# Altium footprint library RLC Footprints.PcbLib: 68 footprints (part 4 of 5)
Each footprint in its own frame and in the unit in brackets; x right, y up, seen from the top. Pads: shape width x height; smd on the part's side, far side on the other; paste and mask are expansions set on the pad; w line width, h text height; cw(c..) or ccw(c..) is an arc to the next point about the centre after c.
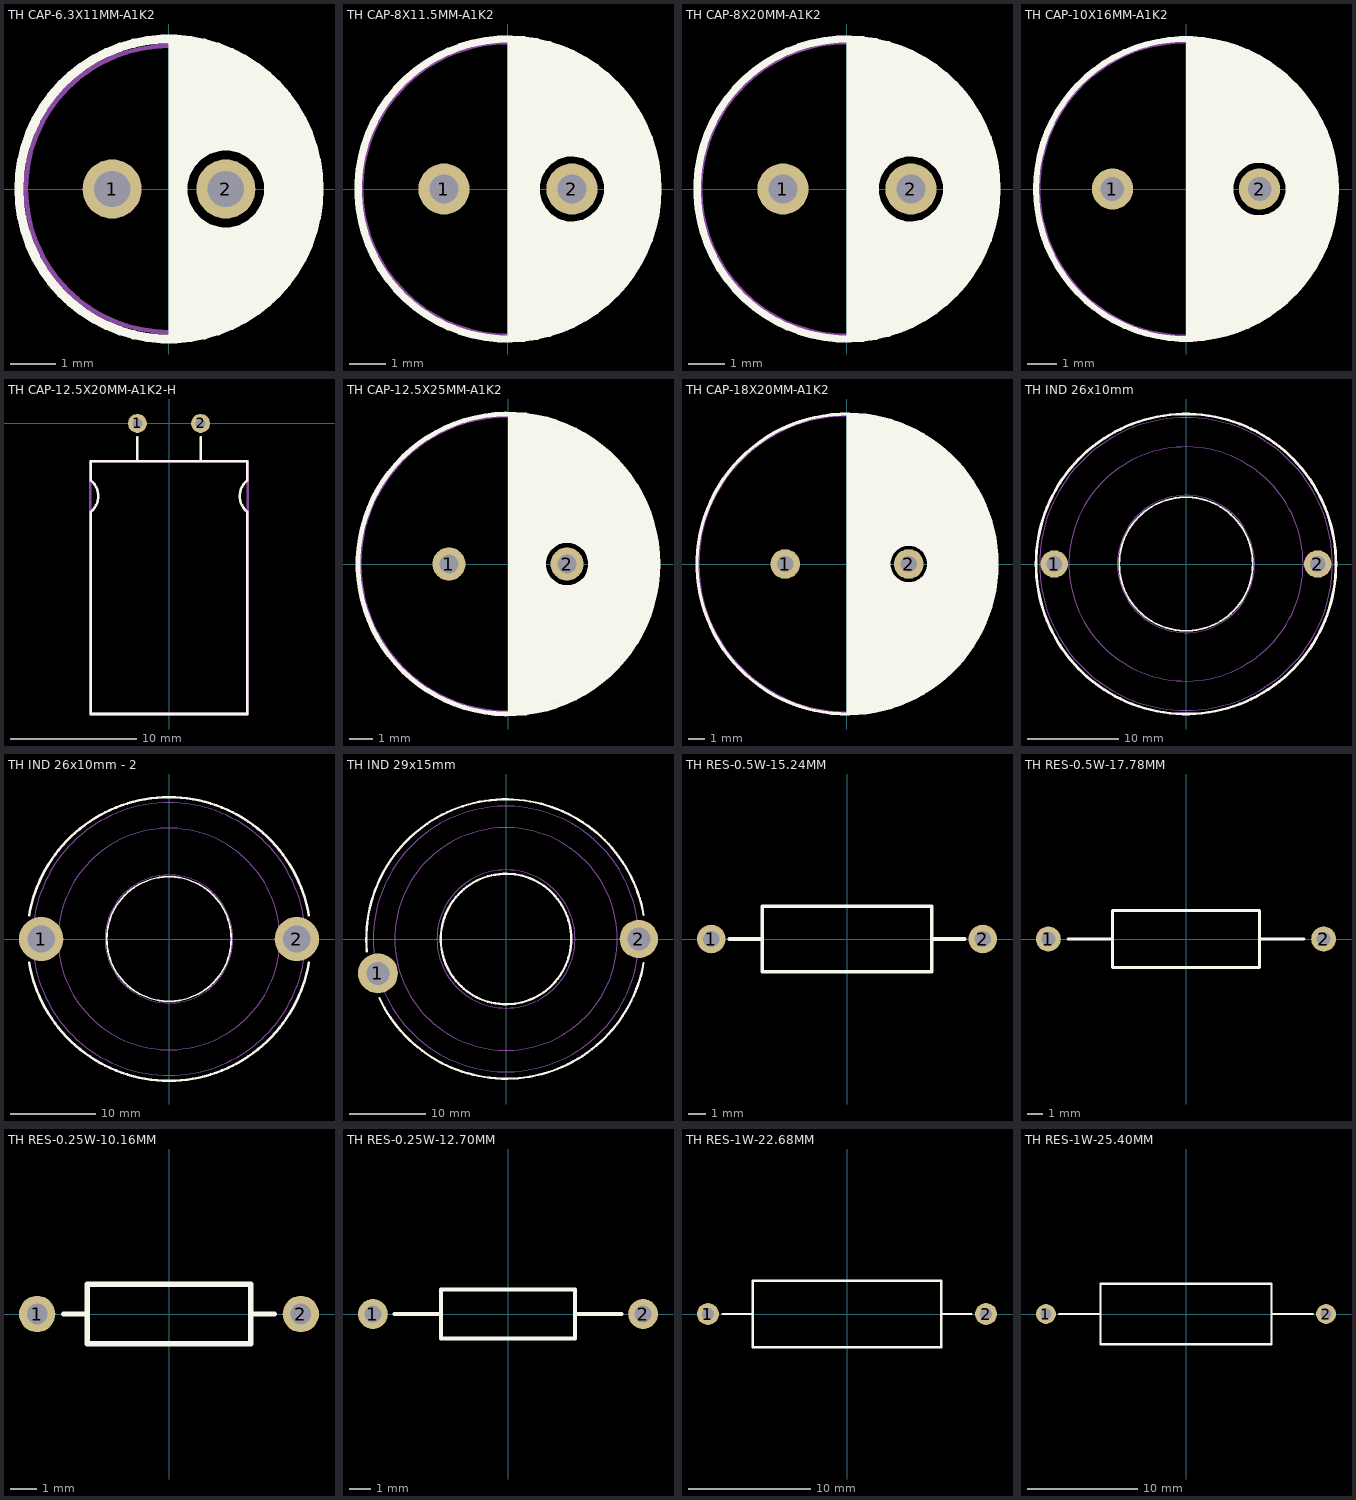
[diagram p3: the footprints below, top view; thin cyan lines are the x and y axes]

## TH CAP-6.3X11MM-A1K2 [mm] "Aluminum Electrolytic Capacitor, Diameter 6.3mm, Height 11mm, Pitch 2.5mm"
height 11
pads (2):
  round 1.3 hole 0.8: 1(-1.25,0) 2(1.25,0)
Top Overlay:
  circle w0.2: c0,0 r3.3
  region: 0,-3.3 0,3.3 0.154,3.3 0.462,3.271 0.765,3.214 1.062,3.128 1.206,3.072 1.2,3.058 1.2,0.849 1.203,0.849 1.096,0.836 0.892,0.771 0.711,0.657 0.564,0.502 0.46,0.314 0.407,0.107 0.407,-0.107 0.46,-0.314 0.564,-0.502 0.711,-0.657 0.892,-0.771 1.096,-0.836 1.203,-0.849 1.2,-0.849 1.2,-3.072 1.207,-3.071 1.063,-3.128 0.766,-3.214 0.462,-3.271 0.155,-3.3
  region: 1.2,-3.072 1.2,-0.849 1.203,-0.849 1.318,-0.847 1.542,-0.798 1.745,-0.691 1.912,-0.533 2.031,-0.336 2.092,-0.115 2.092,0.115 2.031,0.336 1.912,0.533 1.745,0.691 1.542,0.798 1.318,0.847 1.203,0.849 1.2,0.849 1.2,3.058 1.206,3.072 1.436,2.982 1.864,2.734 2.251,2.426 2.587,2.064 2.866,1.655 3.08,1.209 3.226,0.737 3.3,0.248 3.3,-0.247 3.226,-0.736 3.081,-1.208 2.866,-1.654 2.588,-2.063 2.252,-2.425 1.865,-2.734 1.437,-2.981 1.207,-3.072
Mechanical 13:
  circle w0.1: c0,0 r3.15
3D body "User Library-Capacitor Radial Electrolitic (1).step": height 11.21, standoff -2.5, extent -3.15,-3.15 3.16,3.15

## TH CAP-8X11.5MM-A1K2 [mm] "Aluminum Electrolytic Capacitor, Diameter 8mm, Height 11.5mm, Pitch 3.5mm"
height 11.5
pads (2):
  round 1.4 hole 0.8: 1(-1.75,0) 2(1.75,0)
Top Overlay:
  circle w0.2: c0,0 r4.1
  region: 0,-4.1 0,4.1 0.221,4.1 0.66,4.053 1.091,3.959 1.51,3.819 1.711,3.726 1.7,3.726 1.7,0.9 1.701,0.889 1.589,0.876 1.375,0.808 1.185,0.688 1.031,0.525 0.923,0.329 0.867,0.112 0.867,-0.112 0.923,-0.329 1.031,-0.525 1.185,-0.688 1.375,-0.808 1.589,-0.876 1.701,-0.889 1.7,-0.9 1.7,-3.726 1.712,-3.726 1.511,-3.818 1.092,-3.958 0.66,-4.053 0.221,-4.1
  region: 1.7,-3.726 1.7,-0.9 1.701,-0.889 1.821,-0.887 2.056,-0.836 2.269,-0.723 2.444,-0.558 2.568,-0.352 2.632,-0.12 2.632,0.12 2.568,0.352 2.444,0.558 2.269,0.723 2.056,0.836 1.821,0.887 1.701,0.889 1.7,0.9 1.7,3.726 1.711,3.726 1.977,3.604 2.469,3.287 2.911,2.903 3.294,2.46 3.61,1.967 3.853,1.435 4.018,0.873 4.101,0.293 4.101,-0.292 4.018,-0.872 3.854,-1.434 3.611,-1.966 3.295,-2.459 2.912,-2.902 2.47,-3.286 1.978,-3.604 1.712,-3.726
Mechanical 13:
  circle w0.1: c0,0 r4
3D body "User Library-Capacitor Radial Electrolitic (2).step": height 11.71, standoff -2.5, extent -4,-4 4.01,4

## TH CAP-8X20MM-A1K2 [mm] "Aluminum Electrolytic Capacitor, Diameter 8mm, Height 20mm, Pitch 3.5mm"
height 20
pads (2):
  round 1.4 hole 0.8: 1(-1.75,0) 2(1.75,0)
Top Overlay:
  circle w0.2: c0,0 r4.1
  region: 0,-4.1 0,4.1 0.221,4.1 0.66,4.053 1.091,3.959 1.51,3.819 1.711,3.726 1.7,3.726 1.7,0.9 1.701,0.889 1.589,0.876 1.375,0.808 1.185,0.688 1.031,0.525 0.923,0.329 0.867,0.112 0.867,-0.112 0.923,-0.329 1.031,-0.525 1.185,-0.688 1.375,-0.808 1.589,-0.876 1.701,-0.889 1.7,-0.9 1.7,-3.726 1.712,-3.726 1.511,-3.818 1.092,-3.958 0.66,-4.053 0.221,-4.1
  region: 1.7,-3.726 1.7,-0.9 1.701,-0.889 1.821,-0.887 2.056,-0.836 2.269,-0.723 2.444,-0.558 2.568,-0.352 2.632,-0.12 2.632,0.12 2.568,0.352 2.444,0.558 2.269,0.723 2.056,0.836 1.821,0.887 1.701,0.889 1.7,0.9 1.7,3.726 1.711,3.726 1.977,3.604 2.469,3.287 2.911,2.903 3.294,2.46 3.61,1.967 3.853,1.435 4.018,0.873 4.101,0.293 4.101,-0.292 4.018,-0.872 3.854,-1.434 3.611,-1.966 3.295,-2.459 2.912,-2.902 2.47,-3.286 1.978,-3.604 1.712,-3.726
Mechanical 13:
  circle w0.1: c0,0 r4
3D body "User Library-Capacitor Radial Electrolitic 350-800X2000.STEP": height 20.21, standoff -2.5, extent -4,-4 4.01,4

## TH CAP-10X16MM-A1K2 [mm] "Aluminum Electrolytic Capacitor, Diameter 10mm, Height 16mm, Pitch 5mm"
height 16
pads (2):
  round 1.4 hole 0.8: 1(-2.5,0) 2(2.5,0)
Top Overlay:
  circle w0.2: c0,0 r5.101
  region: 0,-5.1 0.321,-5.1 0.957,-5.02 1.578,-4.86 2.175,-4.624 2.456,-4.47 2.45,-4.459 2.45,-0.9 2.455,-0.899 2.342,-0.886 2.125,-0.818 1.932,-0.698 1.776,-0.534 1.665,-0.336 1.608,-0.116 1.607,0.111 1.663,0.331 1.773,0.53 1.928,0.695 2.121,0.816 2.337,0.885 2.45,0.899 2.45,0.9 2.45,4.465 2.453,4.471 2.173,4.625 1.577,4.861 0.956,5.02 0.32,5.1 0,5.1
  region: 2.45,-4.459 2.45,-0.9 2.45,-0.899 2.572,-0.897 2.81,-0.845 3.024,-0.731 3.201,-0.564 3.327,-0.356 3.392,-0.122 3.392,0.122 3.327,0.356 3.201,0.564 3.024,0.731 2.81,0.845 2.572,0.897 2.45,0.899 2.45,0.9 2.45,4.465 2.453,4.471 2.753,4.307 3.302,3.902 3.792,3.428 4.215,2.892 4.562,2.305 4.829,1.677 5.009,1.019 5.1,0.342 5.1,-0.34 5.009,-1.016 4.829,-1.674 4.563,-2.302 4.216,-2.89 3.794,-3.426 3.304,-3.9 2.755,-4.306 2.456,-4.47
Mechanical 13:
  circle w0.1: c0,0 r5
3D body "User Library-Capacitor Radial Electrolitic (3).step": height 16.21, standoff -2.5, extent -5,-5 5.01,5

## TH CAP-12.5X20MM-A1K2-H [mm] "Aluminum Electrolytic Capacitor, Horizontal, Diameter 12.5mm, Height 20mm, Pitch 5.0mm"
height 12.5
pads (2):
  round 1.5 hole 0.8: 1(-2.5,0) 2(2.5,0)
Top Overlay:
  lines w0.2: -2.5,-1.1 -2.5,-3 ; 2.5,-3 2.5,-1.1 ; -2.5,-3 -6.2,-3 -6.2,-4.5 cw(c-7.2,-5.75) -6.2,-7 -6.2,-23 6.2,-23 6.2,-7 cw(c7.2,-5.75) 6.2,-4.5 6.2,-3 -2.5,-3
Mechanical 13:
  lines w0.2: -6.25,-23 -6.25,-3 6.25,-3 6.25,-23 -6.25,-23
3D body: height 12.55, standoff 0.05, extent -6.245,-23 6.25,-3

## TH CAP-12.5X25MM-A1K2 [mm] "Aluminum Electrolytic Capacitor, Diameter 12.5mm, Height 25mm, Pitch 5.0mm"
height 25
pads (2):
  round 1.4 hole 0.8: 1(-2.5,0) 2(2.5,0)
Top Overlay:
  circle w0.2: c0,0 r6.35
  region: 0,-6.25 0.323,-6.25 0.966,-6.183 1.599,-6.051 2.214,-5.853 2.51,-5.724 2.5,-5.7 2.5,-0.906 2.382,-0.898 2.153,-0.837 1.949,-0.718 1.782,-0.551 1.663,-0.347 1.602,-0.118 1.602,0.118 1.663,0.347 1.782,0.551 1.949,0.718 2.153,0.837 2.382,0.898 2.5,0.906 2.5,5.7 2.51,5.724 2.214,5.853 1.599,6.051 0.966,6.183 0.323,6.25 0,6.25
  region: 2.5,-0.906 2.618,-0.898 2.847,-0.837 3.051,-0.718 3.218,-0.551 3.337,-0.347 3.398,-0.118 3.398,0.118 3.337,0.347 3.218,0.551 3.051,0.718 2.847,0.837 2.618,0.898 2.5,0.906 2.5,5.7 2.51,5.724 2.842,5.578 3.467,5.213 4.045,4.778 4.569,4.28 5.033,3.724 5.429,3.118 5.752,2.471 5.999,1.79 6.166,1.086 6.25,0.367 6.25,-0.356 6.167,-1.075 6.002,-1.78 5.757,-2.461 5.434,-3.109 5.039,-3.715 4.577,-4.272 4.053,-4.771 3.476,-5.207 2.851,-5.573 2.52,-5.719 2.5,-5.7
Mechanical 13:
  circle w0.1: c0,0 r6.25
3D body "User Library-Capacitor Radial Electrolitic 5.step": height 25.01, standoff -2.7, extent -6.25,-6.25 6.26,6.25

## TH CAP-18X20MM-A1K2 [mm] "Aluminum Electrolytic Capacitor, Diameter 18mm, Height 20mm, Pitch 7.5mm"
height 16
pads (2):
  round 1.8 hole 1: 1(-3.75,0) 2(3.75,0)
Top Overlay:
  circle w0.2: c0,0 r9.102
  region: 0,-9.1 0.477,-9.1 1.427,-9.001 2.36,-8.803 3.268,-8.508 3.704,-8.314 3.7,-8.305 3.7,-1.122 3.699,-1.122 3.557,-1.107 3.285,-1.023 3.043,-0.873 2.846,-0.667 2.707,-0.418 2.635,-0.142 2.635,0.142 2.707,0.418 2.846,0.667 3.043,0.873 3.285,1.023 3.557,1.107 3.699,1.122 3.7,1.122 3.7,8.31 3.702,8.315 3.267,8.509 2.359,8.803 1.426,9.001 0.477,9.1 0,9.1
  region: 3.699,-1.122 3.85,-1.119 4.144,-1.052 4.41,-0.909 4.628,-0.701 4.783,-0.442 4.863,-0.151 4.863,0.151 4.783,0.442 4.628,0.701 4.41,0.909 4.144,1.052 3.85,1.119 3.699,1.122 3.7,1.122 3.7,8.31 3.702,8.315 4.102,8.137 4.863,7.707 5.58,7.206 6.245,6.638 6.853,6.009 7.397,5.325 7.874,4.592 8.278,3.816 8.605,3.005 8.854,2.167 9.021,1.309 9.105,0.438 9.105,-0.436 9.021,-1.307 8.854,-2.165 8.606,-3.004 8.278,-3.814 7.875,-4.59 7.398,-5.323 6.854,-6.008 6.246,-6.637 5.581,-7.205 4.865,-7.706 4.104,-8.136 3.704,-8.314 3.7,-8.305
Mechanical 13:
  circle w0.1: c0,0 r9
3D body "User Library-Capacitor Radial Electrolitic 5.step": height 20.01, standoff -2.7, extent -9,-9 9.01,9

## TH IND 26x10mm [mm] "Inductor, ID 15.8mm, OD 26.29mm, Height 10mm, 16AWG"
height 10
pads (2):
  round 3 hole 1.7: 1(-14.4,0) 2(14.4,0)
Top Overlay:
  circle w0.3: c0,0 r16.4
  circle w0.2: c0,0 r7.301
Mechanical 13:
  circle w0.1: c0,0 r16
  circle w0.1: c0,0 r12.8
  circle w0.1: c0,0 r7.5
3D body: height 11, standoff 0, extent -16,-15.995 16,15.996

## TH IND 26x10mm - 2 [mm] "Inductor, ID 15.8mm, OD 26.29mm, Height 10mm, 16AWG"
height 10
pads (2):
  round 5.2 hole 3.2: 1(-15,0) 2(15,0)
Top Overlay:
  circle w0.2: c0,0 r7.301
  lines w0.3: -16.393,-2.799 ccw(c0,0) 16.393,-2.799 ; -16.393,2.799 cw(c0,0) 16.393,2.799
Mechanical 13:
  circle w0.1: c0,0 r7.5
  circle w0.1: c0,0 r13
  circle w0.1: c0,0 r16
3D body: height 11, standoff 0, extent -16,-15.995 16,15.996

## TH IND 29x15mm [mm] "Inductor, ID 18mm, OD 29mm, Height 15mm, 2x16AWG"
height 15
pads (2):
  round 5.2 hole 3: 1(-16.683,-4.47)
  round 5 hole 3: 2(17.3,0)
Top Overlay:
  circle w0.3: c0,0 r8.5
  lines w0.3: -18.131,-1.586 cw(c0,0) 17.924,3.16 ; -16.495,-7.692 ccw(c0,0) 17.923,-3.16
Mechanical 13:
  circle w0.1: c0,0 r9
  circle w0.1: c0,0 r14.5
  circle w0.1: c0,0 r17.3
3D body: height 15, standoff 0, extent -17.3,-17.295 17.3,17.295

## TH RES-0.5W-15.24MM [mm] "Axial Through-Hole; Body 3.68x9.5mm; Pin Spacing 15.24mm"
height 3.68
pads (2):
  round 1.6 hole 0.9: 1(-7.62,0) 2(7.62,0)
Top Overlay:
  lines w0.2: -6.604,0 -4.75,0 ; 4.75,0 6.604,0 ; -4.75,-1.84 4.75,-1.84 4.75,1.84 -4.75,1.84 -4.75,-1.84

## TH RES-0.5W-17.78MM [mm] "Axial Through-Hole; Body 3.68x9.5mm; Pin Spacing 17.78mm"
height 3.68
pads (2):
  round 1.6 hole 0.9: 1(-8.89,0) 2(8.89,0)
Top Overlay:
  lines w0.2: -7.62,0 -4.75,0 ; 4.75,0 7.62,0 ; -4.75,-1.84 4.75,-1.84 4.75,1.84 -4.75,1.84 -4.75,-1.84

## TH RES-0.25W-10.16MM [mm] "Axial Through-Hole; Body 2.3x6.3mm; Pin Spacing 10.16mm"
height 2.3
pads (2):
  round 1.4 hole 0.8: 1(-5.08,0) 2(5.08,0)
Top Overlay:
  lines w0.2: -4.064,0 -3.15,0 ; 3.15,0 4.064,0 ; -3.15,-1.15 3.15,-1.15 3.15,1.15 -3.15,1.15 -3.15,-1.15

## TH RES-0.25W-12.70MM [mm] "Axial Through-Hole; Body 2.3x6.3mm; Pin Spacing 12.70mm"
height 2.3
pads (2):
  round 1.4 hole 0.8: 1(-6.35,0) 2(6.35,0)
Top Overlay:
  lines w0.2: -5.334,0 -3.15,0 ; 3.15,0 5.334,0 ; -3.15,-1.15 3.15,-1.15 3.15,1.15 -3.15,1.15 -3.15,-1.15

## TH RES-1W-22.68MM [mm] "Axial Through-Hole; Body 5.5x15.5mm; Pin Spacing 22.68mm"
height 5.5
pads (2):
  round 1.8 hole 1: 1(-11.43,0) 2(11.43,0)
Top Overlay:
  lines w0.2: -10.2,0 -7.75,0 ; -7.75,2.732 -7.75,-2.75 7.75,-2.75 7.75,2.75 -7.75,2.75 ; 7.75,0 10.2,0

## TH RES-1W-25.40MM [mm] "Axial Through-Hole; Body 5.5x15.5mm; Pin Spacing 25.40mm"
height 5.5
pads (2):
  round 1.8 hole 1: 1(-12.7,0) 2(12.7,0)
Top Overlay:
  lines w0.2: -11.5,0 -7.75,0 ; -7.75,2.732 -7.75,-2.75 7.75,-2.75 7.75,2.75 -7.75,2.75 ; 7.75,0 11.5,0